# Altium footprint library L50T-SSU.PcbLib: 52 footprints (part 3 of 4)
Each footprint in its own frame and in the unit in brackets; x right, y up, seen from the top. Pads: shape width x height; smd on the part's side, far side on the other; paste and mask are expansions set on the pad; w line width, h text height; cw(c..) or ccw(c..) is an arc to the next point about the centre after c.
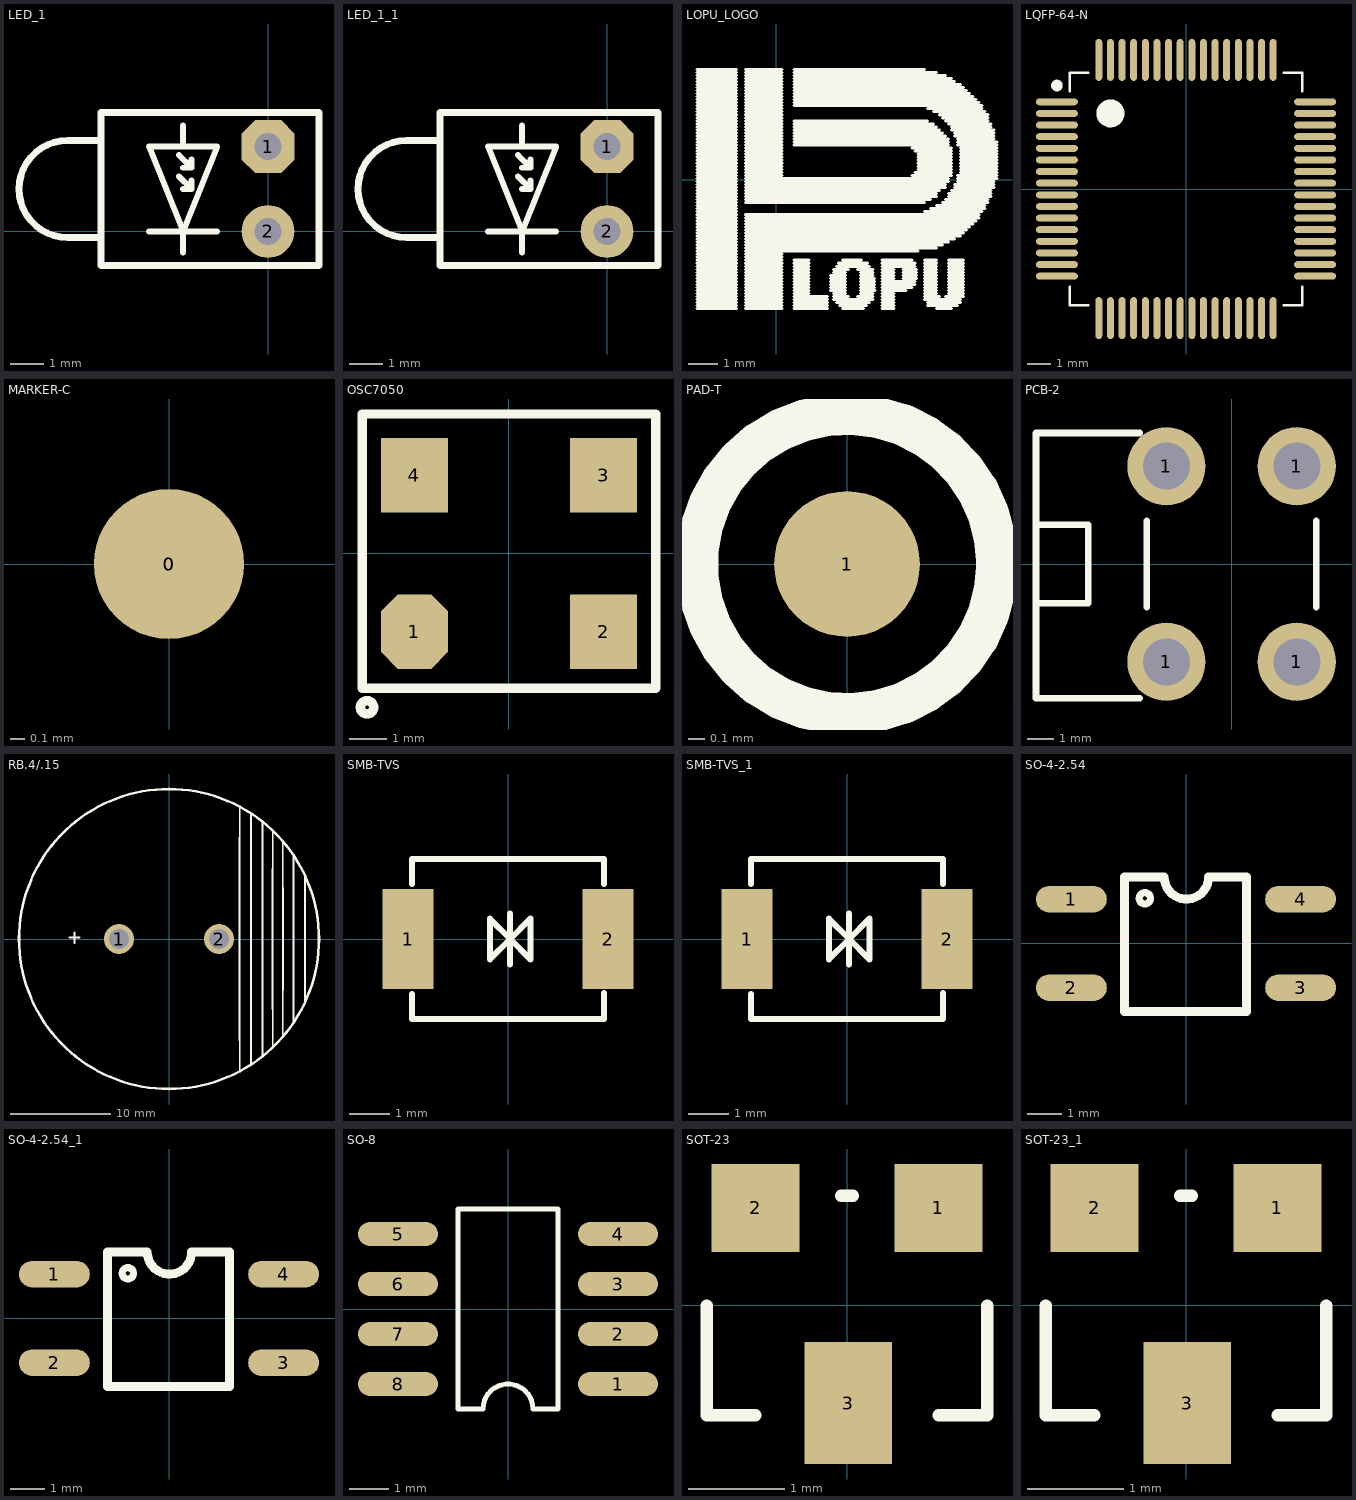
[diagram p2: the footprints below, top view; thin cyan lines are the x and y axes]

## LED_1 [mil]
height 7.87
pads (2):
  oct 62x62 hole 32: 1(0,100)
  round 62 hole 32: 2(0,0)
Top Overlay:
  lines w7: -140,0 -60,0 ; -105,65 -90,50 ; -105,90 -90,75 ; -100,-25 -100,0 ; -100,50 -90,50 ; -100,75 -90,75 ; -100,100 -100,125 ; -90,60 -90,50 ; -90,85 -90,75 ; -100,0 -140,100 -65,100 -60,100 -100,0
  lines w8: -197.76,-7.09 -236.22,-7.09 cw(c-236.22,50) -236.22,107.09 -197.09,107.09 ; -160,-40 60,-40 60,140 -160,140 -196.85,140 -196.85,-40 -156,-40
3D body "User Library-blueLEDrightAngle.STEP": height 251.97, standoff -188.98, extent -275.76,-30.7 51.01,130.71

## LED_1_1 [mil]
height 7.87
pads (2):
  oct 62x62 hole 32: 1(0,100)
  round 62 hole 32: 2(0,0)
Top Overlay:
  lines w7: -140,0 -60,0 ; -105,65 -90,50 ; -105,90 -90,75 ; -100,-25 -100,0 ; -100,50 -90,50 ; -100,75 -90,75 ; -100,100 -100,125 ; -90,60 -90,50 ; -90,85 -90,75 ; -100,0 -60,100 -65,100 -140,100 -100,0
  lines w8: -197.76,-7.09 -236.22,-7.09 cw(c-236.22,50) -236.22,107.09 -197.09,107.09 ; -160,-40 60,-40 60,140 -160,140 -196.85,140 -196.85,-40 -156,-40
3D body "User Library-blueLEDrightAngle.STEP": height 251.97, standoff -188.98, extent -275.76,-30.7 51.01,130.71

## LOPU_LOGO [mm]
height 0.572
Top Overlay:
  drawing of 319 lines, arcs and shapes, not listed

## LQFP-64-N [mm] "Thin QFP, 64-Leads, Body 10x10mm, Pitch 0.5mm, IPC Medium Density"
height 1.6
pads (64):
  oval 1.8x0.3 smd: 1(-5.55,3.75) 2(-5.55,3.25) 3(-5.55,2.75) 4(-5.55,2.25) 5(-5.55,1.75) 6(-5.55,1.25) 7(-5.55,0.75) 8(-5.55,0.25) 9(-5.55,-0.25) 10(-5.55,-0.75) 11(-5.55,-1.25) 12(-5.55,-1.75) 13(-5.55,-2.25) 14(-5.55,-2.75) 15(-5.55,-3.25) 16(-5.55,-3.75) 33(5.55,-3.75) 34(5.55,-3.25) 35(5.55,-2.75) 36(5.55,-2.25) 37(5.55,-1.75) 38(5.55,-1.25) 39(5.55,-0.75) 40(5.55,-0.25) 41(5.55,0.25) 42(5.55,0.75) 43(5.55,1.25) 44(5.55,1.75) 45(5.55,2.25) 46(5.55,2.75) 47(5.55,3.25) 48(5.55,3.75)
  oval 0.3x1.8 smd: 17(-3.75,-5.55) 18(-3.25,-5.55) 19(-2.75,-5.55) 20(-2.25,-5.55) 21(-1.75,-5.55) 22(-1.25,-5.55) 23(-0.75,-5.55) 24(-0.25,-5.55) 25(0.25,-5.55) 26(0.75,-5.55) 27(1.25,-5.55) 28(1.75,-5.55) 29(2.25,-5.55) 30(2.75,-5.55) 31(3.25,-5.55) 32(3.75,-5.55) 49(3.75,5.55) 50(3.25,5.55) 51(2.75,5.55) 52(2.25,5.55) 53(1.75,5.55) 54(1.25,5.55) 55(0.75,5.55) 56(0.25,5.55) 57(-0.25,5.55) 58(-0.75,5.55) 59(-1.25,5.55) 60(-1.75,5.55) 61(-2.25,5.55) 62(-2.75,5.55) 63(-3.25,5.55) 64(-3.75,5.55)
Top Overlay:
  circle w0.6: c-3.25,3.25 r0.3
  circle w0.25: c-5.55,4.45 r0.125
  lines w0.1: -5,-4.191 -5,-5 -4.191,-5 ; -5,4.191 -5,5 -4.191,5 ; 4.191,-5 5,-5 5,-4.191 ; 4.191,5 5,5 5,4.191
3D body "User Library-STM32F107 -LQFP64 10mm x 10mm.STEP": height 1.6, standoff 0.01, extent -5.999,-5.999 5.999,5.999

## MARKER-C [mil]
pads (2):
  round 40 smd: 0(0,0)
  round 80 on Top Solder: 0(0,0)

## OSC7050 [mm]
pads (4):
  oct 1.8x2 smd: 1(-2.54,-2.1)
  rect 1.8x2 smd: 2(2.54,-2.1) 3(2.54,2.1) 4(-2.54,2.1)
Top Overlay:
  circle w0.254: c-3.81,-4.132 r0.18
  lines w0.254: -3.937,-3.624 -3.937,3.742 3.937,3.742 3.937,-3.624 -3.937,-3.624
3D body: height 1.27, standoff 0, extent -3.542,-3.202 3.542,3.202

## PAD-T [mil]
height 23.62
pads (1):
  round 35 smd: 1(0,0)
Top Overlay:
  circle w10: c0,0 r36.06

## PCB-2 [mm]
pads (4):
  round 3 hole 1.8: 1(-2.5,-3.75) 1(-2.5,3.75) 1(2.5,-3.75) 1(2.5,3.75)
Top Overlay:
  lines w0.254: -7.5,-1.5 -5.5,-1.5 -5.5,1.5 ; -7.5,1.5 -5.548,1.5 ; -3.516,-5.14 -7.5,-5.14 -7.5,5.02 -3.516,5.02 ; -3.25,-1.65 -3.25,1.65 ; 3.25,-1.65 3.25,1.65

## RB.4/.15 [mm]
height 30
pads (2):
  round 3 hole 2: 1(-5,0) 2(5,0)
Top Overlay:
  circle w0.254: c0,0 r15
  lines w0.178: 7.065,-13.128 7.065,-10.16 ; 7.065,10.16 7.065,13.161 ; 8.208,-12.526 8.208,-9.271 ; 8.208,9.271 8.208,12.526 ; 9.351,-11.604 9.351,-8.128 ; 9.351,8.255 9.351,11.764 ; 10.367,-10.748 10.367,-6.985 ; 10.367,6.985 10.367,10.748 ; 11.383,-9.605 11.383,-5.08 ; 11.383,5.08 11.383,9.699 ; 12.446,-8.255 12.446,8.255 ; 13.589,-6.223 13.589,6.223
  lines w0.2: -9.953,0.127 -8.937,0.127 ; -9.445,-0.381 -9.445,0.635 ; 7.065,-10.16 7.065,10.16 ; 8.208,-9.271 8.208,9.271 ; 9.351,-8.255 9.351,8.255 ; 10.367,-6.985 10.367,6.985 ; 11.383,-5.08 11.383,5.08

## SMB-TVS [mm]
pads (2):
  rect 1.27x2.5 smd: 1(-2.5,0) 2(2.5,0)
Top Overlay:
  lines w0.15: -2.4,-2 2.4,-2 ; -2.4,-1.524 -2.4,-1.372 ; -2.4,1.372 -2.4,1.524 ; -2.4,2 2.4,2 ; 0.052,-0.635 0.052,0.635 ; 2.4,-1.524 2.4,-1.346 ; 2.4,1.372 2.4,1.524 ; 0.052,0 -0.456,0.508 -0.456,-0.508 0.052,0 ; 0.052,0 0.56,0.508 0.56,-0.508 0.052,0
  lines w0.152: -2.4,-2 -2.4,-1.524 ; -2.4,1.524 -2.4,2 ; 2.4,-2 2.4,-1.524 ; 2.4,1.524 2.4,2
3D body "User Library-DO-214AA(SMB).STEP": height 2.6, standoff -0.05, extent -2.794,-1.975 2.794,1.975

## SMB-TVS_1 [mm]
pads (2):
  rect 1.27x2.5 smd: 1(-2.5,0) 2(2.5,0)
Top Overlay:
  lines w0.15: -2.4,-2 2.4,-2 ; -2.4,-1.524 -2.4,-1.372 ; -2.4,1.372 -2.4,1.524 ; -2.4,2 2.4,2 ; 0.052,-0.635 0.052,0.635 ; 2.4,-1.524 2.4,-1.346 ; 2.4,1.372 2.4,1.524 ; 0.052,0 0.56,-0.508 0.56,0.508 0.052,0 ; 0.052,0 -0.456,-0.508 -0.456,0.508 0.052,0
  lines w0.152: -2.4,-2 -2.4,-1.524 ; -2.4,1.524 -2.4,2 ; 2.4,-2 2.4,-1.524 ; 2.4,1.524 2.4,2
3D body "User Library-DO-214AA(SMB).STEP": height 2.6, standoff -0.05, extent -2.794,-1.975 2.794,1.975

## SO-4-2.54 [mil]
pads (4):
  oval 80x30 smd: 1(-129.5,50) 2(-129.5,-50) 3(129.5,-50) 4(129.5,50)
Top Overlay:
  circle w8: c-46.5,51 r6.4
  lines w10: -69.5,-77 -69.5,75 -24.5,75 ccw(c0.5,75) 25.5,75 68.5,75 68.5,-77 -69.5,-77
3D body "User Library-so4-1.STEP": height 82.68, standoff 0, extent -137.79,-75.78 137.8,75.8

## SO-4-2.54_1 [mil]
pads (4):
  oval 80x30 smd: 1(-129.5,50) 2(-129.5,-50) 3(129.5,-50) 4(129.5,50)
Top Overlay:
  circle w8: c-46.5,51 r6.4
  lines w10: -69.5,-77 68.5,-77 68.5,75 25.5,75 cw(c0.5,75) -24.5,75 -69.5,75 -69.5,-77
3D body "User Library-so4-1.STEP": height 82.68, standoff 0, extent -137.79,-75.78 137.8,75.8

## SO-8 [mil]
pads (8):
  oval 80x24 smd: 1(110,-75) 2(110,-25) 3(110,25) 4(110,75) 5(-110,75) 6(-110,25) 7(-110,-25) 8(-110,-75)
Top Overlay:
  lines w5: -50,-100 -50,100 50,100 50,-100 25,-100 ccw(c0,-100) -25,-100 -50,-100
3D body "SW3DPS-SO-8-DEFAULT.STEP": height 57, standoff 0, extent -113.75,-97 113.75,96

## SOT-23 [mil]
pads (3):
  rect 36x36 smd: 1(37.5,40) 2(-37.5,40)
  rect 36x50 smd: 3(0.5,-40)
Top Overlay:
  lines w5: -57.5,0 -57.5,-45 -37.5,-45 ; -2.5,45 2.5,45 ; 37.5,-45 57.5,-45 57.5,0
3D body "User Library-SOT95P240X110-3M[SOT23-3_TO-236AB].STEP": height 43.11, standoff 0, extent -58.55,-47.21 59.56,51.22

## SOT-23_1 [mil]
pads (3):
  rect 36x36 smd: 1(37.5,40) 2(-37.5,40)
  rect 36x50 smd: 3(0.5,-40)
Top Overlay:
  lines w5: -57.5,0 -57.5,-45 -37.5,-45 ; -2.5,45 2.5,45 ; 37.5,-45 57.5,-45 57.5,0
3D body "User Library-SOT95P240X110-3M[SOT23-3_TO-236AB].STEP": height 43.11, standoff 0, extent -58.55,-47.21 59.56,51.22